# Altium integrated library ERA8ARW222V.IntLib: 1 symbol
Pins are listed as number, name and electrical type; pins without a type are passive.

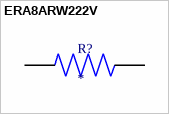
[diagram p0: symbol ERA8ARW222V]

## ERA8ARW222V
designator R?
MP: ERA8ARW222V; Package: None; Availability: Unavailable; Value: *; Price: None
footprint RES_ERA8ARW222V
pins: 1, 2